# Altium schematic symbol library Wireless power.SchLib: 4 symbols
Pins are listed as number, name and electrical type; pins without a type are passive.

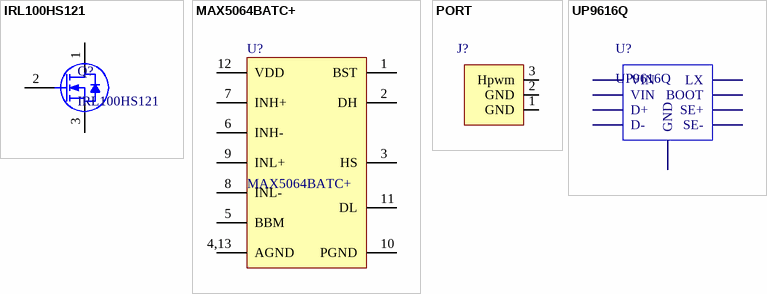
[diagram p0: symbols IRL100HS121 to UP9616Q]

## IRL100HS121
designator Q?
footprint IRL100HS121 (PQFN, 8-Leads, Body 2.00x2.00mm, Pitch 0.65mm, Thermal Pad 1.70x2.05mm, IPC Low Density)
pins: 1 D, 2 G, 3 S

## MAX5064BATC+
designator U?
footprint QFN80P400X400X100_HS-13M (QFN, 12-Leads, Body 4.00x4.00mm, Pitch 0.80mm, Thermal Pad 2.00x2.00mm, IPC Low Density); pin to pad 4,13>4
pins: 1 BST, 2 DH, 3 HS, 4,13 AGND, 5 BBM, 6 INH-, 7 INH+, 8 INL-, 9 INL+, 10 PGND, 11 DL, 12 VDD

## PORT
designator J?  (value not drawn)
pins: 1 GND, 2 GND, 3 Hpwm

## UP9616Q
designator U?
footprint UP9616Q (QFN, 8-Leads, Body 5.00x6.00mm, Pitch 1.27mm/0.65mm, Thermal Pad 4.00x3.40mm, IPC Low Density)
footprint Model Name (Footprint not found)
pins: 1 VIN, 2 VIN, 3 D+, 4 D-, 5 SE-, 6 SE+, 7 BOOT, 8 LX, 9 GND